# EAGLE library part ARDUINOR3SHIELD (library Qtechknow)
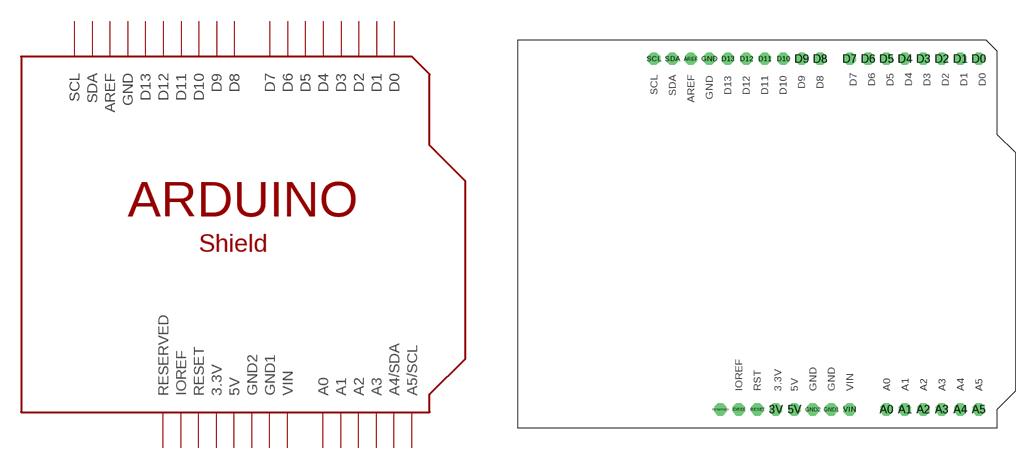
[diagram p1: symbol with the pads of ARDUINOR3NOHOLE; footprint ARDUINOR3NOHOLE]

Designator prefix -

## ARDUINOR3SHIELD  [ARDUINOR3NOHOLE]
3V  3.3V  pwr
5V  5V  pwr
A0  A0
A1  A1
A2  A2
A3  A3
A4  A4/SDA
A5  A5/SCL
AREF  AREF
D0  D0
D1  D1
D2  D2
D3  D3
D4  D4
D5  D5
D6  D6
D7  D7
D8  D8
D9  D9
D10  D10
D11  D11
D12  D12
D13  D13
GND  GND  pwr
GND1  GND1  pwr
GND2  GND2  pwr
IOREF  IOREF  out
RESERVED  RESERVED  nc
RESET  RESET
SCL  SCL
SDA  SDA
VIN  VIN  pwr

## Footprint ARDUINOR3NOHOLE (pad centres in mm)
drill 1 pad 1.676 octagon: 3V -3.81,-21.59; 5V -1.27,-21.59; A0 11.43,-21.59; A1 13.97,-21.59; A2 16.51,-21.59; A3 19.05,-21.59; A4 21.59,-21.59; A5 24.13,-21.59; AREF -15.494,26.67; D0 24.13,26.67; D1 21.59,26.67; D2 19.05,26.67; D3 16.51,26.67; D4 13.97,26.67; D5 11.43,26.67; D6 8.89,26.67; D7 6.35,26.67; D8 2.286,26.67; D9 -0.254,26.67; D10 -2.794,26.67; D11 -5.334,26.67; D12 -7.874,26.67; D13 -10.414,26.67; GND -12.954,26.67; GND1 3.81,-21.59; GND2 1.27,-21.59; IOREF -8.89,-21.59; RESERVED -11.43,-21.59; RESET -6.35,-21.59; SCL -20.574,26.67; SDA -18.034,26.67; VIN 6.35,-21.59